# EAGLE library part G6K*-2F-RF (library K-RELAY)
OMRON High Frequency Relay G6K-RF Compact High Frequency Relays with 2 Form C (DPDT) Contacts Handles 1 A, 30 VDC discrete load and 1 W at 1 GHz high frequency load D20G6KRF0602.pdf
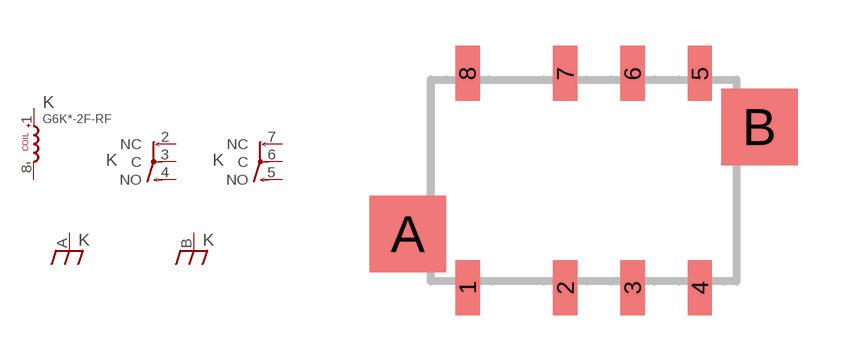
[diagram p0: symbol with the pads of RF; footprint RF]

Designator prefix K; gates S1=SHIELD S2=SHIELD 1=1C 2=1C G$1=K+-

## G6K-2F-RF, G6KU-2F-RF  [RF]
1  G$1:+  pas
2  1:NC  pas
3  1:C  pas
4  1:NO  pas
5  2:NO  pas
6  2:C  pas
7  2:NC  pas
8  G$1:-  pas
A  S1:SH  pas
B  S2:SH  pas

## Footprint RF (pad centres in mm)
1Ghz RF
smd 0.8 x 1.8: 1 -3.8,-3.5; 2 -0.6,-3.5; 3 1.6,-3.5; 4 3.8,-3.5; 5 3.8,3.5; 6 1.6,3.5; 7 -0.6,3.5; 8 -3.8,3.5
smd 2.5 x 2.5: A -5.75,-1.75; B 5.75,1.75